# EAGLE library part ATMEGA32U4-BREAKOUT (library Evan)
ATMega32U4 Breakout board https://www.sparkfun.com/products/11117 Evan Green 13-Jul-2013
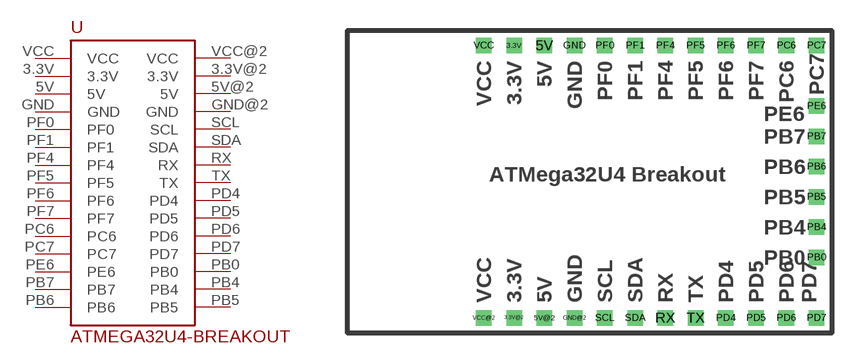
[diagram p3: symbol with the pads of ATMEGA32U4-BREAKOUT; footprint ATMEGA32U4-BREAKOUT]

Designator prefix -

## ATMEGA32U4-BREAKOUT  [ATMEGA32U4-BREAKOUT]
3.3V  3.3V
3.3V@2  3.3V
5V  5V
5V@2  5V
GND  GND
GND@2  GND
PB0  PB0
PB4  PB4
PB5  PB5
PB6  PB6
PB7  PB7
PC6  PC6
PC7  PC7
PD4  PD4
PD5  PD5
PD6  PD6
PD7  PD7
PE6  PE6
PF0  PF0
PF1  PF1
PF4  PF4
PF5  PF5
PF6  PF6
PF7  PF7
RX  RX
SCL  SCL
SDA  SDA
TX  TX
VCC  VCC
VCC@2  VCC

## Footprint ATMEGA32U4-BREAKOUT (pad centres in mm)
ATMega32U4 Breakout Board Evan Green 13-Jul-2013
drill 0.8 square: 3.3V -6.35,11.43; 3.3V@2 -6.35,-11.43; 5V -3.81,11.43; 5V@2 -3.81,-11.43; GND -1.27,11.43; GND@2 -1.27,-11.43; PB0 19.05,-6.35; PB4 19.05,-3.81; PB5 19.05,-1.27; PB6 19.05,1.27; PB7 19.05,3.81; PC6 16.51,11.43; PC7 19.05,11.43; PD4 11.43,-11.43; PD5 13.97,-11.43; PD6 16.51,-11.43; PD7 19.05,-11.43; PE6 19.05,6.35; PF0 1.27,11.43; PF1 3.81,11.43; PF4 6.35,11.43; PF5 8.89,11.43; PF6 11.43,11.43; PF7 13.97,11.43; RX 6.35,-11.43; SCL 1.27,-11.43; SDA 3.81,-11.43; TX 8.89,-11.43; VCC -8.89,11.43; VCC@2 -8.89,-11.43